# Altium footprint library Transformers.PcbLib: 4 footprints
Each footprint in its own frame and in the unit in brackets; x right, y up, seen from the top. Pads: shape width x height; smd on the part's side, far side on the other; paste and mask are expansions set on the pad; w line width, h text height; cw(c..) or ccw(c..) is an arc to the next point about the centre after c.
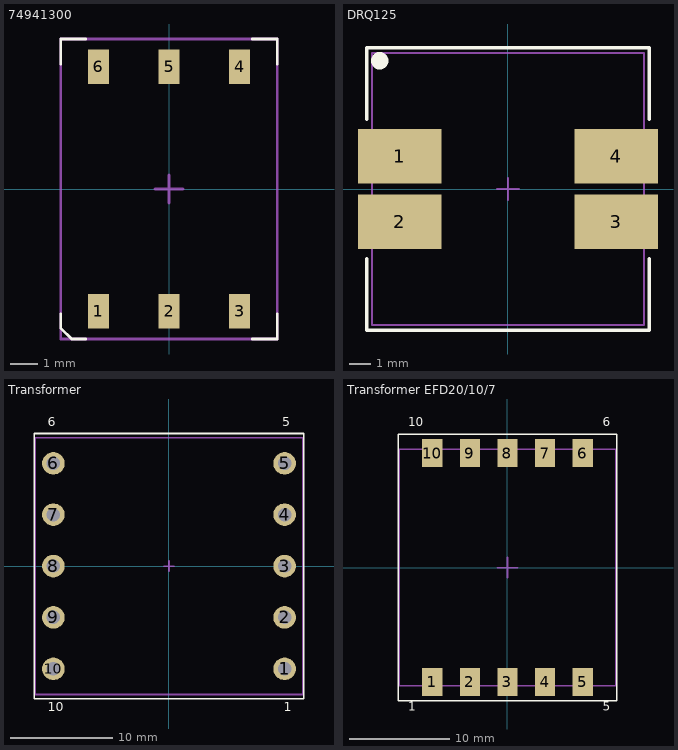
[diagram p0: the footprints below, top view; thin cyan lines are the x and y axes]

## 74941300 [mm]
pads (6):
  rect 0.76x1.25 smd mask+0.05: 1(-2.54,-4.4) 2(0,-4.4) 3(2.54,-4.4) 4(2.54,4.4) 5(0,4.4) 6(-2.54,4.4)
Top Overlay:
  lines w0.1: -3.9,-4.5 -3.9,-5 -3.5,-5.4 -3,-5.4 ; -3.9,4.5 -3.9,5.4 -3,5.4 ; 3,-5.4 3.9,-5.4 3.9,-4.5 ; 3,5.4 3.9,5.4 3.9,4.5
Mechanical 15:
  lines w0.1: -0.5,0 0.5,0 ; 0,-0.5 0,0.5 ; -3.9,-5.4 -3.9,5.4 3.9,5.4 3.9,-5.4 -3.9,-5.4
3D body "STP_WE-BMS_74941300 (rev1).stp": height 5.41, standoff 0, extent -3.8,-4.725 3.8,4.725

## DRQ125 [mm] "Coil"
height 6
pads (4):
  rect 3.85x2.5 smd: 1(-4.975,1.5) 2(-4.975,-1.5) 3(4.975,-1.5) 4(4.975,1.5)
Top Overlay:
  circle w0.5: c-5.9,5.9 r0.15
  lines w0.15: -6.5,-3.2 -6.5,-6.5 6.5,-6.5 6.5,-3.2 ; -6.5,3.2 -6.5,6.5 6.5,6.5 6.5,3.2
Mechanical 13:
  lines w0.1: -0.5,0 0.5,0 ; 0,-0.5 0,0.5 ; -6.25,-6.25 -6.25,6.25 6.25,6.25 6.25,-6.25 -6.25,-6.25
3D body "User Library-DRQ127_12_5x12_5.step": height 8, standoff 0, extent -6.25,-6.25 6.25,6.25

## Transformer [mm]
pads (10):
  round 2.2 hole 1.3: 1(11.25,-10) 2(11.25,-5) 3(11.25,0) 4(11.25,5) 5(11.25,10) 6(-11.25,10) 7(-11.25,5) 8(-11.25,0) 9(-11.25,-5) 10(-11.25,-10)
Top Overlay:
  lines w0.15: -13.1,-12.9 13.1,-12.9 13.1,12.9 -13.1,12.9 -13.1,-12.9
  text "1" at 11.183,-14.4 h1.5
  text "5" at 11,13.3 h1.5
  text "10" at -11.8,-14.4 h1.5
  text "6" at -11.8,13.3 h1.5
Mechanical 13:
  lines w0.15: -0.5,0 0.5,0 ; 0,-0.5 0,0.5 ; -13,-12.5 -13,12.5 13,12.5 13,-12.5 -13,-12.5
3D body "User Library-EFD25(5+5).step": height 15.75, standoff -4, extent -13.05,-12.85 13.05,12.85

## Transformer EFD20/10/7 [mm] "CPHS-EFD20/7-1S-10P"
pads (10):
  rect 2x2.8 smd: 1(-7.5,-11.4) 2(-3.75,-11.4) 3(0,-11.4) 4(3.75,-11.4) 5(7.5,-11.4) 6(7.5,11.4) 7(3.75,11.4) 8(0,11.4) 9(-3.75,11.4) 10(-7.5,11.4)
Top Overlay:
  lines w0.15: -10.9,-13.3 -10.9,13.3 10.9,13.3 10.9,-13.3 -10.9,-13.3
  text "1" at -9.9,-14.6 h1.5
  text "5" at 9.5,-14.593 h1.5
  text "6" at 9.5,13.8 h1.5
  text "10" at -9.9,13.8 h1.5
Mechanical 13:
  lines w0.15: -1,0 1,0 ; 0,-1 0,1 ; -10.8,-11.8 -10.8,11.8 10.8,11.8 10.8,-11.8 -10.8,-11.8
3D body "User Library-TDK_EFD20.step": height 10.7, standoff 0, extent -11,-12.85 11,12.85